# Altium footprint library KN2CLib.PcbLib: 180 footprints (part 9 of 12)
Each footprint in its own frame and in the unit in brackets; x right, y up, seen from the top. Pads: shape width x height; smd on the part's side, far side on the other; paste and mask are expansions set on the pad; w line width, h text height; cw(c..) or ccw(c..) is an arc to the next point about the centre after c.
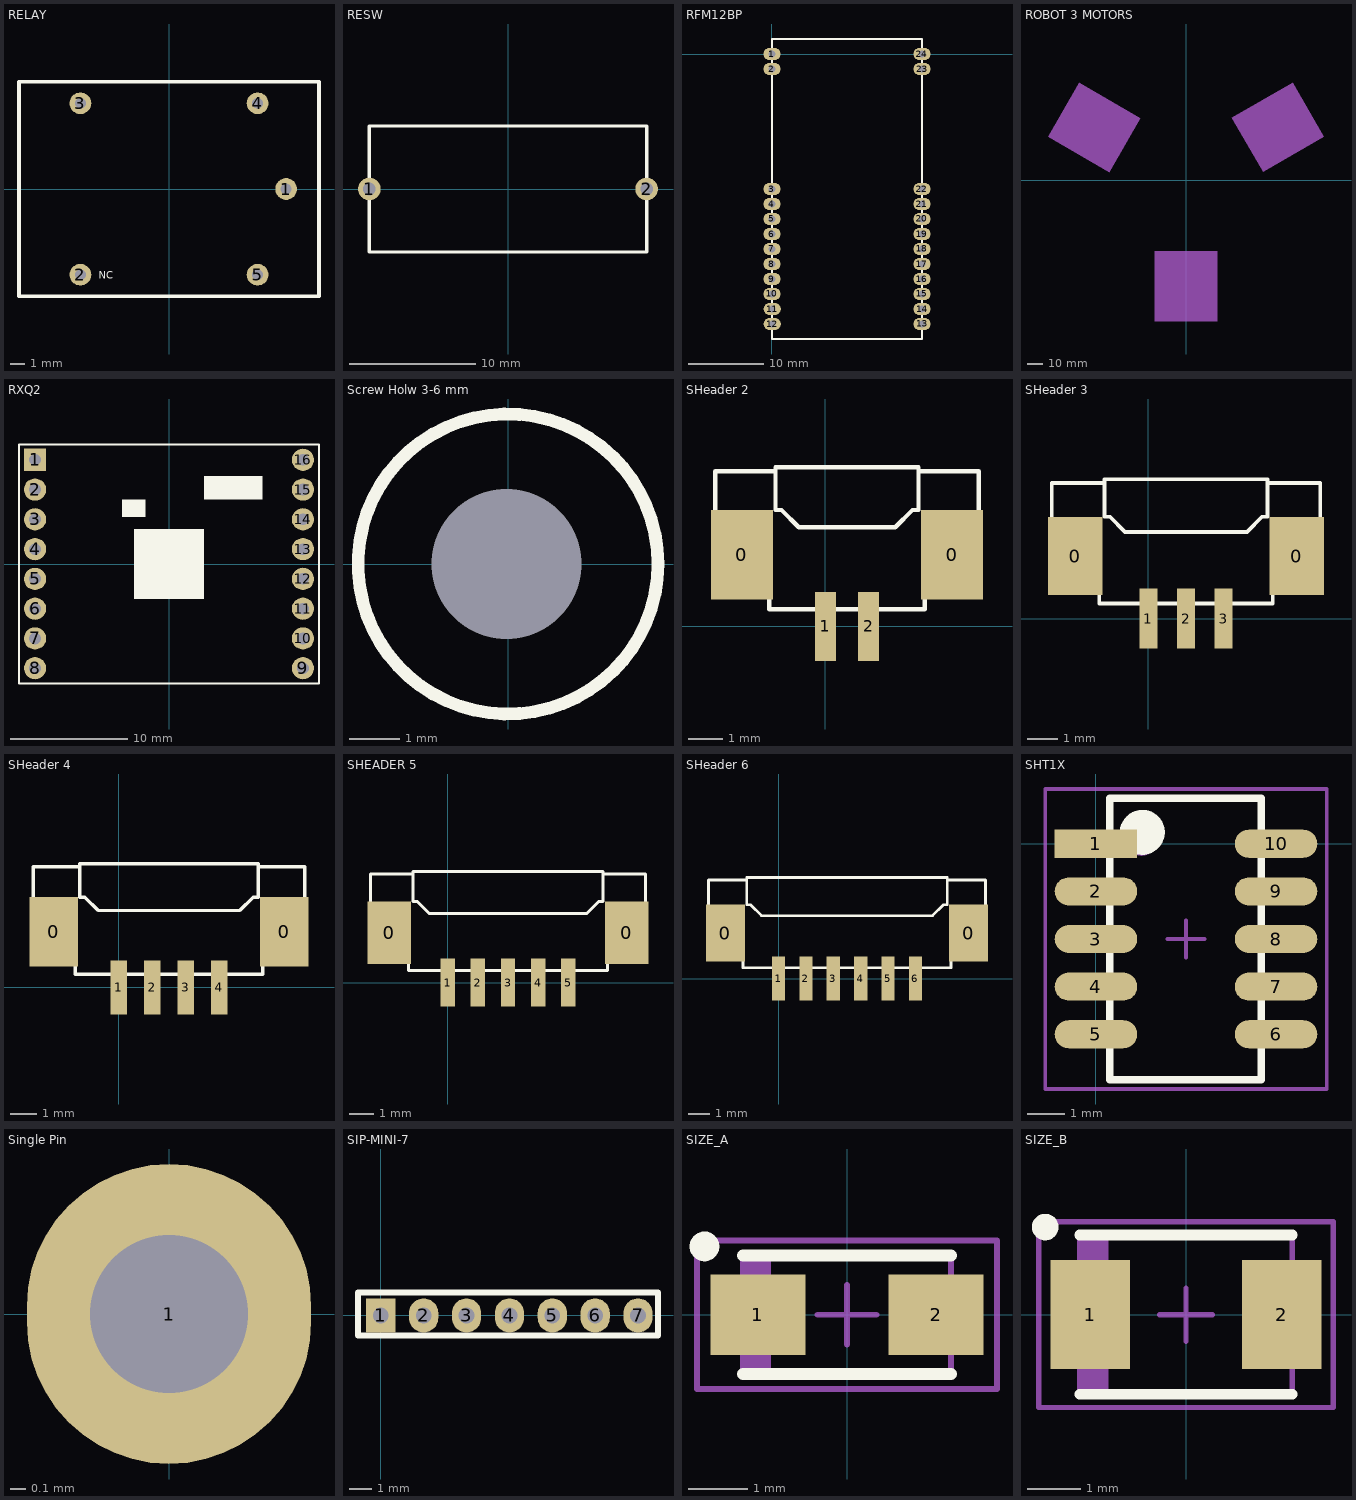
[diagram p8: the footprints below, top view; thin cyan lines are the x and y axes]

## RELAY [mil]
pads (5):
  round 60 hole 30: 1(322.83,0) 2(-244.09,-236.22) 3(-244.09,236.22) 4(244.09,236.22) 5(244.09,-236.22)
Top Overlay:
  lines w10: -413.39,-295.28 -413.39,295.28 413.39,295.28 413.39,-295.28 -413.39,-295.28
  text "NC" at -193.1,-247.3 h19.68
3D body: height 157.48, standoff 0, extent -413.39,-295.28 411.42,293.31

## RESW [mm]
pads (2):
  round 1.8 hole 1: 1(-11,0) 2(11,0)
Top Overlay:
  lines w0.254: -11,-5 11,-5 11,5 -11,5 -11,-5
3D body: height 4, standoff 0, extent -11.025,-5 10.975,4.95

## RFM12BP [mm]
pads (24):
  oval 2.3x1.6 hole 0.9: 1(0,0) 2(0,-2) 3(0,-18) 4(0,-20) 5(0,-22) 6(0,-24) 7(0,-26) 8(0,-28) 9(0,-30) 10(0,-32) 11(0.025,-34) 12(0.025,-36) 13(20,-36) 14(20,-34) 15(20,-32) 16(20,-30) 17(20,-28) 18(20,-26) 19(20,-24) 20(20,-22) 21(20,-20) 22(20,-18) 23(20,-2) 24(20,0)
Top Overlay:
  lines w0.254: 20,-38 20,2 ; 20,-38 20,-38 ; 20,-38 0,-38 0,2 20,2 ; 20,2 20,2
3D body: height 2, standoff 0, extent 0,-38 20,2

## ROBOT 3 MOTORS [mm]
Drill Guide:
  region: 19.984,-89.925 19.984,-71.925 -20.016,-71.925 -20.016,-89.925
  region: 12.437,-71.913 12.437,-21.913 -12.563,-21.913 -12.563,-71.913
  region: -52.316,53.28 -67.905,62.28 -87.905,27.639 -72.316,18.639
  region: -12.742,22.013 -56.043,47.013 -68.543,25.362 -25.242,0.362
  region: 25.335,0.212 68.636,25.212 56.136,46.863 12.835,21.863
  region: 72.382,18.696 87.971,27.696 67.971,62.337 52.382,53.337
  lines w0.254: -67.149,59.926 ccw(c0,0) 67.092,59.988 ; -67.149,60 67.092,60
Mechanical 1:
  region: 19.984,-89.925 19.984,-44.925 -20.016,-44.925 -20.016,-89.925
  region: -28.934,39.78 -67.905,62.28 -87.905,27.639 -48.934,5.139
  region: 49,5.196 87.971,27.696 67.971,62.337 29,39.837

## RXQ2 [mm]
pads (16):
  rect 1.9x1.9 hole 1: 1(-11.43,8.89)
  round 1.9 hole 1: 2(-11.43,6.35) 3(-11.43,3.81) 4(-11.43,1.27) 5(-11.43,-1.27) 6(-11.43,-3.81) 7(-11.43,-6.35) 8(-11.43,-8.89) 9(11.43,-8.89) 10(11.43,-6.35) 11(11.43,-3.81) 12(11.43,-1.27) 13(11.43,1.27) 14(11.43,3.81) 15(11.43,6.35) 16(11.43,8.89)
Top Overlay:
  rectangle: -4,4 -2,5.5
  rectangle: -3,-3 3,3
  rectangle: 3,5.5 8,7.5
  lines w0.2: -12.8,-10.2 12.8,-10.2 12.8,10.2 -12.8,10.2 -12.8,-10.2
3D body: height 5, standoff 3, extent -12.8,-10.2 12.8,10.2

## Screw Holw 3-6 mm [mm]
pads (1):
  round 0 hole 3: 0(-0.025,0)
Top Overlay:
  circle w0.254: c0,0 r3

## SHeader 2 [mm]
pads (4):
  rect 1.8x2.6 smd: 0(-2.425,2.075) 0(3.675,2.075)
  rect 0.6x2 smd: 1(0,0) 2(1.25,0)
Top Overlay:
  lines w0.127: -1.475,4.5 -3.2,4.5 -3.2,1 -1.625,1 -1.625,0.5 2.875,0.5 2.875,1 4.45,1 4.45,4.5 2.725,4.5 ; -1.45,4.6 -1.45,3.375 -1.275,3.375 ; -1.45,4.62 2.5,4.62 ; 2.5,4.62 2.7,4.62 ; 2.7,4.6 2.7,3.375 2.525,3.375 ; -1.275,3.375 -0.775,2.875 ; -1.275,3.375 -0.775,2.875 ; -0.775,2.875 2.025,2.875 ; 2.025,2.875 2.525,3.375 ; 2.025,2.875 2.525,3.375
3D body: height 2.4, standoff 0, extent 2.7,0.95 4.45,4.5
3D body: height 2.4, standoff 0, extent -3.2,0.95 -1.45,4.5
3D body: height 3.5, standoff 0, extent -1.475,0.451 2.725,4.65
3D body: height 3, standoff 0, extent -0.125,-0.125 0.125,0.775
3D body: height 3, standoff 0, extent 1.125,-0.125 1.375,0.775

## SHeader 3 [mm]
pads (5):
  rect 1.8x2.6 smd: 0(-2.425,2.075) 0(4.925,2.075)
  rect 0.6x2 smd: 1(0,0) 2(1.25,0) 3(2.5,0)
Top Overlay:
  lines w0.127: -1.475,4.5 -3.2,4.5 -3.2,1 -1.625,1 -1.625,0.5 2.5,0.5 ; -1.45,4.6 -1.45,3.375 -1.275,3.375 ; -1.45,4.62 2.5,4.62 ; 2.5,0.5 4.125,0.5 4.125,1 5.7,1 5.7,4.5 3.975,4.5 ; 2.5,2.875 3.275,2.875 ; 2.5,4.62 3.95,4.62 ; 2.5,2.875 -0.775,2.875 ; 3.95,4.6 3.95,3.375 3.775,3.375 ; -1.275,3.375 -0.775,2.875 ; -1.275,3.375 -0.775,2.875 ; 3.275,2.875 3.775,3.375 ; 3.275,2.875 3.775,3.375
3D body: height 2.4, standoff 0, extent 3.95,0.95 5.7,4.5
3D body: height 2.4, standoff 0, extent -3.2,0.95 -1.45,4.5
3D body: height 3.5, standoff 0, extent -1.475,0.451 4,4.65
3D body: height 3, standoff 0, extent -0.125,-0.125 0.125,0.775
3D body: height 3, standoff 0, extent 1.125,-0.125 1.375,0.775
3D body: height 3, standoff 0, extent 2.375,-0.125 2.625,0.775

## SHeader 4 [mm]
pads (6):
  rect 1.8x2.6 smd: 0(-2.425,2.075) 0(6.175,2.075)
  rect 0.6x2 smd: 1(0,0) 2(1.25,0) 3(2.5,0) 4(3.75,0)
Top Overlay:
  lines w0.127: -1.475,4.5 -3.2,4.5 -3.2,1 -1.625,1 -1.625,0.5 2.5,0.5 ; -1.45,4.6 -1.45,3.375 -1.275,3.375 ; -1.45,4.62 2.5,4.62 ; 2.5,0.5 5.375,0.5 5.375,1 6.95,1 6.95,4.5 5.225,4.5 ; 2.5,2.875 4.5,2.875 ; 2.5,4.62 5.2,4.62 ; 2.5,2.875 -0.775,2.875 ; 5.2,4.6 5.2,3.375 5.025,3.375 ; -1.275,3.375 -0.775,2.875 ; -1.275,3.375 -0.775,2.875 ; 5.025,3.375 4.525,2.875 5.025,3.375
3D body: height 2.4, standoff 0, extent 5.2,0.95 6.95,4.5
3D body: height 2.4, standoff 0, extent -3.2,0.95 -1.45,4.5
3D body: height 3.5, standoff 0, extent -1.625,0.45 5.2,4.65
3D body: height 3, standoff 0, extent -0.125,-0.125 0.125,0.775
3D body: height 3, standoff 0, extent 1.125,-0.125 1.375,0.775
3D body: height 3, standoff 0, extent 2.375,-0.125 2.625,0.775
3D body: height 3, standoff 0, extent 3.625,-0.125 3.875,0.775

## SHEADER 5 [mm] "SMD Header 1.27mm"
pads (7):
  rect 1.8x2.6 smd: 0(-2.425,2.075) 0(7.425,2.075)
  rect 0.6x2 smd: 1(0,0) 2(1.25,0) 3(2.5,0) 4(3.75,0) 5(5,0)
Top Overlay:
  lines w0.127: -1.475,4.5 -3.2,4.5 -3.2,1 -1.625,1 -1.625,0.5 2.5,0.5 ; -1.45,4.6 -1.45,3.375 -1.275,3.375 ; -1.45,4.62 2.5,4.62 ; 2.5,0.5 6.625,0.5 6.625,1 8.2,1 8.2,4.5 6.475,4.5 ; 2.5,2.875 5.775,2.875 ; 2.5,4.62 6.45,4.62 ; 2.5,2.875 -0.775,2.875 ; 6.45,4.6 6.45,3.375 6.275,3.375 ; -1.275,3.375 -0.775,2.875 ; -1.275,3.375 -0.775,2.875 ; 5.775,2.875 6.275,3.375 ; 5.775,2.875 6.275,3.375
3D body: height 2.4, standoff 0, extent -3.2,0.95 -1.45,4.5
3D body: height 2.4, standoff 0, extent 6.45,0.95 8.2,4.5
3D body: height 3.5, standoff 0, extent -1.625,0.45 6.625,4.65
3D body: height 3, standoff 0, extent -0.125,-0.125 0.125,0.775
3D body: height 3, standoff 0, extent 1.125,-0.125 1.375,0.775
3D body: height 3, standoff 0, extent 2.375,-0.125 2.625,0.775
3D body: height 3, standoff 0, extent 3.625,-0.125 3.875,0.775
3D body: height 3, standoff 0, extent 4.875,-0.125 5.125,0.775

## SHeader 6 [mm]
pads (8):
  rect 1.8x2.6 smd: 0(-2.425,2.075) 0(8.675,2.075)
  rect 0.6x2 smd: 1(0,0) 2(1.25,0) 3(2.5,0) 4(3.75,0) 5(5,0) 6(6.25,0)
Top Overlay:
  lines w0.127: -1.475,4.5 -3.2,4.5 -3.2,1 -1.625,1 -1.625,0.5 2.5,0.5 ; -1.45,4.6 -1.45,3.375 -1.275,3.375 ; -1.45,4.62 2.5,4.62 ; 2.5,0.5 7.875,0.5 7.875,1 9.45,1 9.45,4.5 7.725,4.5 ; 2.5,2.875 7.025,2.875 ; 2.5,4.62 7.7,4.62 ; 2.5,2.875 -0.775,2.875 ; 7.7,4.6 7.7,3.375 7.525,3.375 ; -1.275,3.375 -0.775,2.875 ; -1.275,3.375 -0.775,2.875 ; 7.025,2.875 7.525,3.375 ; 7.025,2.875 7.525,3.375
3D body: height 3, standoff 0, extent 6.125,-0.125 6.375,0.775
3D body: height 2.4, standoff 0, extent -3.2,0.95 -1.45,4.5
3D body: height 2.4, standoff 0, extent 7.7,0.95 9.45,4.5
3D body: height 3.5, standoff 0, extent -1.625,0.45 7.875,4.65
3D body: height 3, standoff 0, extent -0.125,-0.125 0.125,0.775
3D body: height 3, standoff 0, extent 1.125,-0.125 1.375,0.775
3D body: height 3, standoff 0, extent 2.375,-0.125 2.625,0.775
3D body: height 3, standoff 0, extent 3.625,-0.125 3.875,0.775
3D body: height 3, standoff 0, extent 4.875,-0.125 5.125,0.775

## SHT1X [mm] "Sensor"
height 2.65
pads (10):
  rect 2.2x0.75 smd: 1(0,0)
  oval 2.2x0.75 smd: 2(0,-1.27) 3(0,-2.54) 4(0,-3.81) 5(0,-5.08) 6(4.8,-5.08) 7(4.8,-3.81) 8(4.8,-2.54) 9(4.8,-1.27) 10(4.8,0)
Top Overlay:
  circle w0.6: c1.236,0.305 r0.3
  circle w0.25: c1.208,0.279 r0.125
  lines w0.2: 0.368,-6.29 4.407,-6.29 4.407,1.21 0.368,1.21 0.368,-6.29
Mechanical 13:
  circle w0.1: c1.189,0.229 r0.5
  lines w0.1: 0.343,-6.275 4.407,-6.275 4.407,1.195 0.343,1.195 0.343,-6.275
Mechanical 15:
  lines w0.1: 1.9,-2.54 2.9,-2.54 ; 2.4,-3.04 2.4,-2.04 ; -1.35,-6.54 6.15,-6.54 6.15,1.46 -1.35,1.46 -1.35,-6.54
3D body: height 1.9, standoff -0.5, extent 1.169,-5.259 3.556,-2.869
3D body: height 1.6, standoff 0.7, extent 1.169,-4.064 3.556,0
3D body: height 0.8, standoff 0, extent 0.368,-6.274 4.381,1.245

## Single Pin [mm] "A Single Pin"
pads (1):
  oval 1.8x1.9 hole 1: 1(0,0)

## SIP-MINI-7 [mm]
pads (7):
  rect 1.3x1.524 hole 0.7: 1(0,0)
  oval 1.3x1.524 hole 0.7: 2(1.905,0) 3(3.81,0) 4(5.715,0) 5(7.62,0) 6(9.525,0) 7(11.43,0)
Top Overlay:
  lines w0.254: -1.016,-0.889 12.319,-0.889 12.319,1.016 -1.016,1.016 -1.016,-0.889

## SIZE_A [mm] "Molded Capacitor, 2-Leads, Body 3.4x1.9mm, IPC Medium Density"
height 2
pads (2):
  rect 1.6x1.35 smd: 1(-1.5,0) 2(1.5,0)
Top Overlay:
  circle w0.25: c-2.4,1.15 r0.125
  lines w0.2: -1.75,-1 1.75,-1 ; -1.75,1 1.75,1
Mechanical 13:
  rectangle: -1.75,-1 -1.279,1
  lines w0.1: -1.75,-1 -1.75,1 1.75,1 1.75,-1 -1.75,-1
Mechanical 15:
  lines w0.1: -0.5,0 0.5,0 ; 0,-0.5 0,0.5 ; -2.525,-1.25 -2.525,1.25 2.525,1.25 2.525,-1.25 -2.525,-1.25
3D body: height 2, standoff 0, extent -1.75,-1 1.75,1

## SIZE_B [mm] "Molded Capacitor, 2-Leads, Body 3.9x3.0mm, IPC Medium Density"
height 2
pads (2):
  rect 1.5x2.05 smd: 1(-1.8,0) 2(1.8,0)
Top Overlay:
  circle w0.25: c-2.65,1.65 r0.125
  lines w0.2: -2,-1.5 2,-1.5 ; -2,1.5 2,1.5
Mechanical 13:
  rectangle: -2,-1.5 -1.462,1.5
  lines w0.1: -2,-1.5 -2,1.5 2,1.5 2,-1.5 -2,-1.5
Mechanical 15:
  lines w0.1: -0.5,0 0.5,0 ; 0,-0.5 0,0.5 ; -2.775,-1.75 -2.775,1.75 2.775,1.75 2.775,-1.75 -2.775,-1.75
3D body: height 2, standoff 0, extent -2,-1.5 2,1.5